# Altium schematic symbol library MAX 6682.Schlib: 1 symbol
Pins are listed as number, name and electrical type; pins without a type are passive.

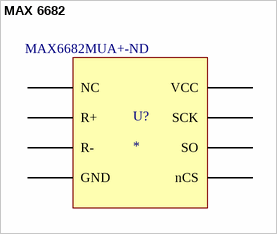
[diagram p0: symbol MAX 6682]

## MAX 6682
designator U?  Supplier Part Number 1: MAX6682MUA+-ND
MAX 6685 Thermistor - SPI converter, 8bit; Supplier 1: Digi-Key
footprint 8-MSOP
pins: 1 NC, 2 R+, 3 R-, 4 GND, 5 nCS, 6 SO, 7 SCK, 8 VCC